# Altium schematic symbol library commutateur.SchLib: 1 symbol
Pins are listed as number, name and electrical type; pins without a type are passive.

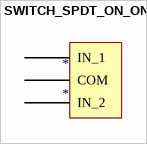
[diagram p0: symbol SWITCH_SPDT_ON_ON_2]

## SWITCH_SPDT_ON_ON_2
designator *
footprint SW_MFP-161
pins: 1 IN_1, 2 COM, 3 IN_2